# EAGLE library part DF3-09 (library con-hirose)
Single row connector 2mm 9 way
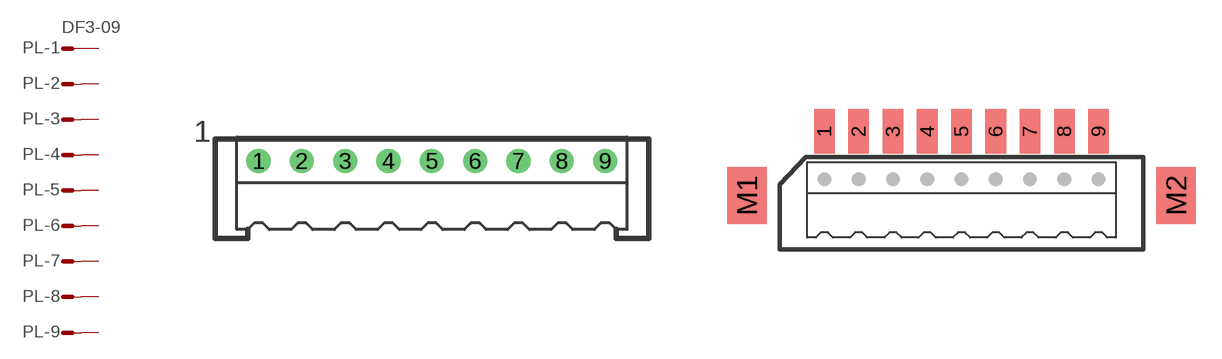
[diagram p7: symbol with the pads of DF3P-09; footprints DF3P-09, DF3DZ-09]

Designator prefix PL; gates -1=MV -2=M -3=M -4=M -5=M -6=M -7=M -8=M -9=M

## DF3-09P  [DF3P-09]
1  -1:S  pas
2  -2:S  pas
3  -3:S  pas
4  -4:S  pas
5  -5:S  pas
6  -6:S  pas
7  -7:S  pas
8  -8:S  pas
9  -9:S  pas

## DF3-09DZ  [DF3DZ-09]
Pads as for DF3P-09

## DF3-09R  [DF3R-09]
Pads as for DF3P-09

## Footprint DF3P-09 (pad centres in mm)
Single row connector 2mm 9 way
drill 0.6 round: 1 -8,1; 2 -6,1; 3 -4,1; 4 -2,1; 5 0,1; 6 2,1; 7 4,1; 8 6,1; 9 8,1

## Footprint DF3DZ-09 (pad centres in mm)
Single row SMT connector 2mm 9 way
smd 1.2 x 2.6: 1 -8,4.1; 2 -6,4.1; 3 -4,4.1; 4 -2,4.1; 5 0,4.1; 6 2,4.1; 7 4,4.1; 8 6,4.1; 9 8,4.1
smd 2.3 x 3.3: M1 -12.52,0.35; M2 12.52,0.35

## Footprint DF3R-09 (pad centres in mm)
Single row connector 2mm 9 way
drill 0.6 round: 1 -8,1.8; 2 -6,1.8; 3 -4,1.8; 4 -2,1.8; 5 0,1.8; 6 2,1.8; 7 4,1.8; 8 6,1.8; 9 8,1.8